# EAGLE library part WM8731 (library uRings_SE_Library)
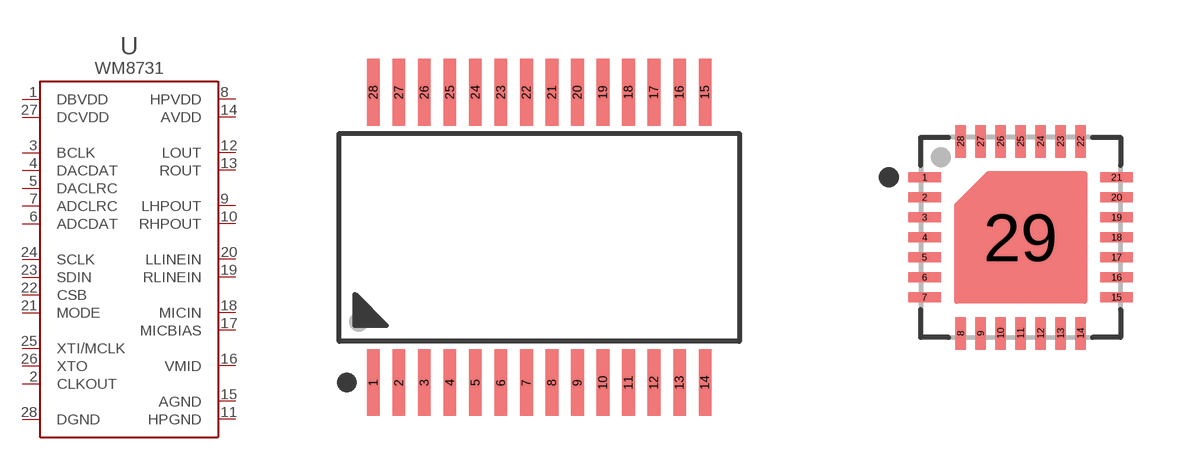
[diagram p6: symbol with the pads of SSOP-28; footprints SSOP-28, QFN-28]

Designator prefix U

## WM8731-SSOP  [SSOP-28]
1  DBVDD
2  CLKOUT
3  BCLK
4  DACDAT
5  DACLRC
6  ADCDAT
7  ADCLRC
8  HPVDD
9  LHPOUT
10  RHPOUT
11  HPGND
12  LOUT
13  ROUT
14  AVDD
15  AGND
16  VMID
17  MICBIAS
18  MICIN
19  RLINEIN
20  LLINEIN
21  MODE
22  CSB
23  SDIN
24  SCLK
25  XTI/MCLK
26  XTO
27  DCVDD
28  DGND

## WM8731-QFN  [QFN-28]
1  XTI/MCLK
2  XTO
3  DCVDD
4  DGND
5  DBVDD
6  CLKOUT
7  BCLK
8  DACDAT
9  DACLRC
10  ADCDAT
11  ADCLRC
12  HPVDD
13  LHPOUT
14  RHPOUT
15  HPGND
16  LOUT
17  ROUT
18  AVDD
19  AGND
20  VMID
21  MICBIAS
22  MICIN
23  RLINEIN
24  LLINEIN
25  MODE
26  CSB
27  SDIN
28  SCLK
29  DGND

## Footprint SSOP-28 (pad centres in mm)
smd 0.32 x 1.7: 1 -4.225,-3.7; 2 -3.575,-3.7; 3 -2.925,-3.7; 4 -2.275,-3.7; 5 -1.625,-3.7; 6 -0.975,-3.7; 7 -0.325,-3.7; 8 0.325,-3.7; 9 0.975,-3.7; 10 1.625,-3.7; 11 2.275,-3.7; 12 2.925,-3.7; 13 3.575,-3.7; 14 4.225,-3.7; 15 4.225,3.7; 16 3.575,3.7; 17 2.925,3.7; 18 2.275,3.7; 19 1.625,3.7; 20 0.975,3.7; 21 0.325,3.7; 22 -0.325,3.7; 23 -0.975,3.7; 24 -1.625,3.7; 25 -2.275,3.7; 26 -2.925,3.7; 27 -3.575,3.7; 28 -4.225,3.7

## Footprint QFN-28 (pad centres in mm)
smd 0.813 x 0.254: 1 -2.4,1.5; 2 -2.4,1; 3 -2.4,0.5; 4 -2.4,0; 5 -2.4,-0.5; 6 -2.4,-1; 7 -2.4,-1.5; 15 2.4,-1.5; 16 2.4,-1; 17 2.4,-0.5; 18 2.4,0; 19 2.4,0.5; 20 2.4,1; 21 2.4,1.5
smd 0.254 x 0.813: 8 -1.5,-2.4; 9 -1,-2.4; 10 -0.5,-2.4; 11 0,-2.4; 12 0.5,-2.4; 13 1,-2.4; 14 1.5,-2.4; 22 1.5,2.4; 23 1,2.4; 24 0.5,2.4; 25 0,2.4; 26 -0.5,2.4; 27 -1,2.4; 28 -1.5,2.4
smd 2.45 x 2.45: 29 0,0